# Altium schematic symbol library EDR_New.SchLib: 11 symbols
Pins are listed as number, name and electrical type; pins without a type are passive.

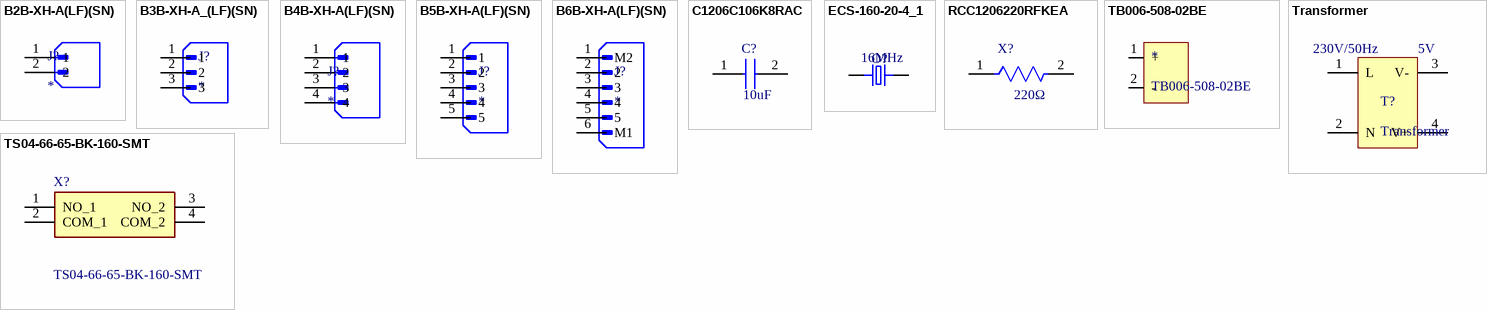
[diagram p0: symbols B2B-XH-A(LF)(SN) to TS04-66-65-BK-160-SMT]

## B2B-XH-A(LF)(SN)
designator J?
Connector Header Through Hole 2 position 0.098 (2.50mm); MF: JST Sales America Inc.; MP: B2B-XH-A(LF)(SN); SnapEDA_Link: https://www.snapeda.com/parts/B2B-XH-A(LF)(SN)/JST+Sales+America+Inc./view-part/?ref=snap; Package: None; Value: *; Check_prices: https://www.snapeda.com/parts/B2B-XH-A(LF)(SN)/JST+Sales+America+Inc./view-part/?ref=eda
footprint JST_B2B-XH-A(LF)(SN)
pins: 1, 2

## B3B-XH-A_(LF)(SN)
designator J?
Connector Header Through Hole 3 position 0.098 (2.50mm); MF: JST Sales America Inc.; MP: B3B-XH-A (LF)(SN); SnapEDA_Link: https://www.snapeda.com/parts/B3B-XH-A%20(LF)(SN)/JST+Sales+America+Inc./view-part/?ref=snap; Package: None; Value: *; Check_prices: https://www.snapeda.com/parts/B3B-XH-A%20(LF)(SN)/JST+Sales+America+Inc./view-part/?ref=eda
footprint JST_B3B-XH-A (LF)(SN)
pins: 1, 2, 3

## B4B-XH-A(LF)(SN)
designator J?
Connector Header Through Hole 4 position 0.098 (2.50mm); MP: B4B-XH-A(LF)(SN); MF: JST Sales; SnapEDA_Link: https://www.snapeda.com/parts/B4B-XH-A(LF)(SN)/JST+Sales+America+Inc./view-part/?ref=snap; Package: None; Check_prices: https://www.snapeda.com/parts/B4B-XH-A(LF)(SN)/JST+Sales+America+Inc./view-part/?ref=eda; Purchase-URL: https://pricing.snapeda.com/search/part/B4B-XH-A(LF)(SN)/?ref=eda; Price: None; Value: *; Availability: In Stock
footprint JST_B4B-XH-A(LF)(SN)
footprint JST_B4B-XH-A(LF)(SN)
pins: 1, 2, 3, 4

## B5B-XH-A(LF)(SN)
designator J?
Connector Header Through Hole 5 position 0.098 (2.50mm); MF: JST Sales America Inc.; MP: B5B-XH-A(LF)(SN); SnapEDA_Link: https://www.snapeda.com/parts/B5B-XH-A(LF)(SN)/JST+Sales+America+Inc./view-part/?ref=snap; Package: None; Value: *; Check_prices: https://www.snapeda.com/parts/B5B-XH-A(LF)(SN)/JST+Sales+America+Inc./view-part/?ref=eda
footprint JST_B5B-XH-A(LF)(SN)
pins: 1, 2, 3, 4, 5

## B6B-XH-A(LF)(SN)
designator J?
Connector Header Through Hole 6 position 0.098 (2.50mm); MF: JST Sales; MP: B6B-XH-A(LF)(SN); SnapEDA_Link: https://www.snapeda.com/parts/B6B-XH-A(LF)(SN)/JST+Sales+America+Inc./view-part/?ref=snap; Package: None; Value: *; Check_prices: https://www.snapeda.com/parts/B6B-XH-A(LF)(SN)/JST+Sales+America+Inc./view-part/?ref=eda
footprint JST_B6B-XH-A(LF)(SN)
pins: 1 M2, 2, 3, 4, 5, 6 M1

## C1206C106K8RAC
designator C?  Capacitance: 10uF  (hidden comment: C1206C106K8RAC)
Multilayer Ceramic Capacitors MLCC - SMD/SMT 10V 10uF X7R 1206 0.1; Manufacturer_Name: KEMET; Geometry.Height: 1.8mm; Mouser Part Number: 80-C1206C106K8RAC; Mouser Price/Stock: https://www.mouser.co.uk/ProductDetail/KEMET/C1206C106K8RAC?qs=IIhARexJuViDIgySPNv42g%3D%3D; Manufacturer_Part_Number: C1206C106K8RAC; Datasheet Link: https://www.mouser.in/datasheet/2/212/KEM_C1002_X7R_SMD-1102033.pdf
footprint CAPC3216X180N
pins: 1, 2

## ECS-160-20-4_1
designator O?  value 16MHz  (hidden comment: ECS-160-20-4_1)
Package: None; Price: None; MP: ECS-160-20-4; Availability: Unavailable; Parameter 1: *
footprint Oscillator
pins: 1, 2

## RCC1206220RFKEA
designator X?  Resistance: 220Ω  (hidden comment: RCC1206220RFKEA)
Thick Film Resistors - SMD 220ohms 1% 100ppm; Manufacturer_Name: Vishay; Geometry.Height: 0.6mm; Mouser Part Number: 71-RCC1206220RFKEA; Mouser Price/Stock: https://www.mouser.co.uk/ProductDetail/Vishay-Dale/RCC1206220RFKEA?qs=IS%252B4QmGtzzrRn9QnSak10Q%3D%3D; Manufacturer_Part_Number: RCC1206220RFKEA; Datasheet Link: https://4donline.ihs.com/images/VipMasterIC/IC/VISH/VISH-S-A0011718072/VISH-S-A0011718072-1.pdf?hkey=6D3A4C79FDBF58556ACFDE234799DDF0
footprint RESC3216X60N
pins: 1, 2

## TB006-508-02BE
designator *
Barrier Strip Terminal Block; Manufacturer: CUI Devices; Supplier: Mouser; Supplier Part Number: 490-TB006-508-02BE; Manufacturer Part Number: TB006-508-02BE; RoHS: Yes; Stock: 47338; Pricing: 1=0.86, 10=0.315, 50=0.315, 100=0.301, 1000=0.21, 10000=0.175 (USD)
footprint terminalbox
pins: 1 +, 2 -

## Transformer
designator T?  Output Voltage: 5V  Input Volatge: 230V/50Hz
5V 0.6A 90VAC~265VAC 120V~350V 3W AC-DC 73% Plugin Power Modules ROHS
footprint Hilink
pins: 1 L, 2 N, 3 V-, 4 V+

## TS04-66-65-BK-160-SMT
designator X?
Tactile Switches 6 x 6 mm, 6.5 mm Act Height, 160 gf, Black, Surface Mount, SPST,; Manufacturer_Name: CUI Devices; Geometry.Height: 6.7mm; Mouser Part Number: 179-TS046665BK160SMT; Mouser Price/Stock: https://www.mouser.co.uk/ProductDetail/CUI-Devices/TS04-66-65-BK-160-SMT?qs=A6eO%252BMLsxmTgRLoTHWtDYQ%3D%3D; Manufacturer_Part_Number: TS04-66-65-BK-160-SMT; Datasheet Link: https://www.cuidevices.com/product/resource/ts04.pdf
footprint TS046665BK160SMT
pins: 1 NO_1, 2 COM_1, 3 NO_2, 4 COM_2